# Altium schematic symbol library SchemaitcLib.SchLib: 140 symbols (part 2 of 2)
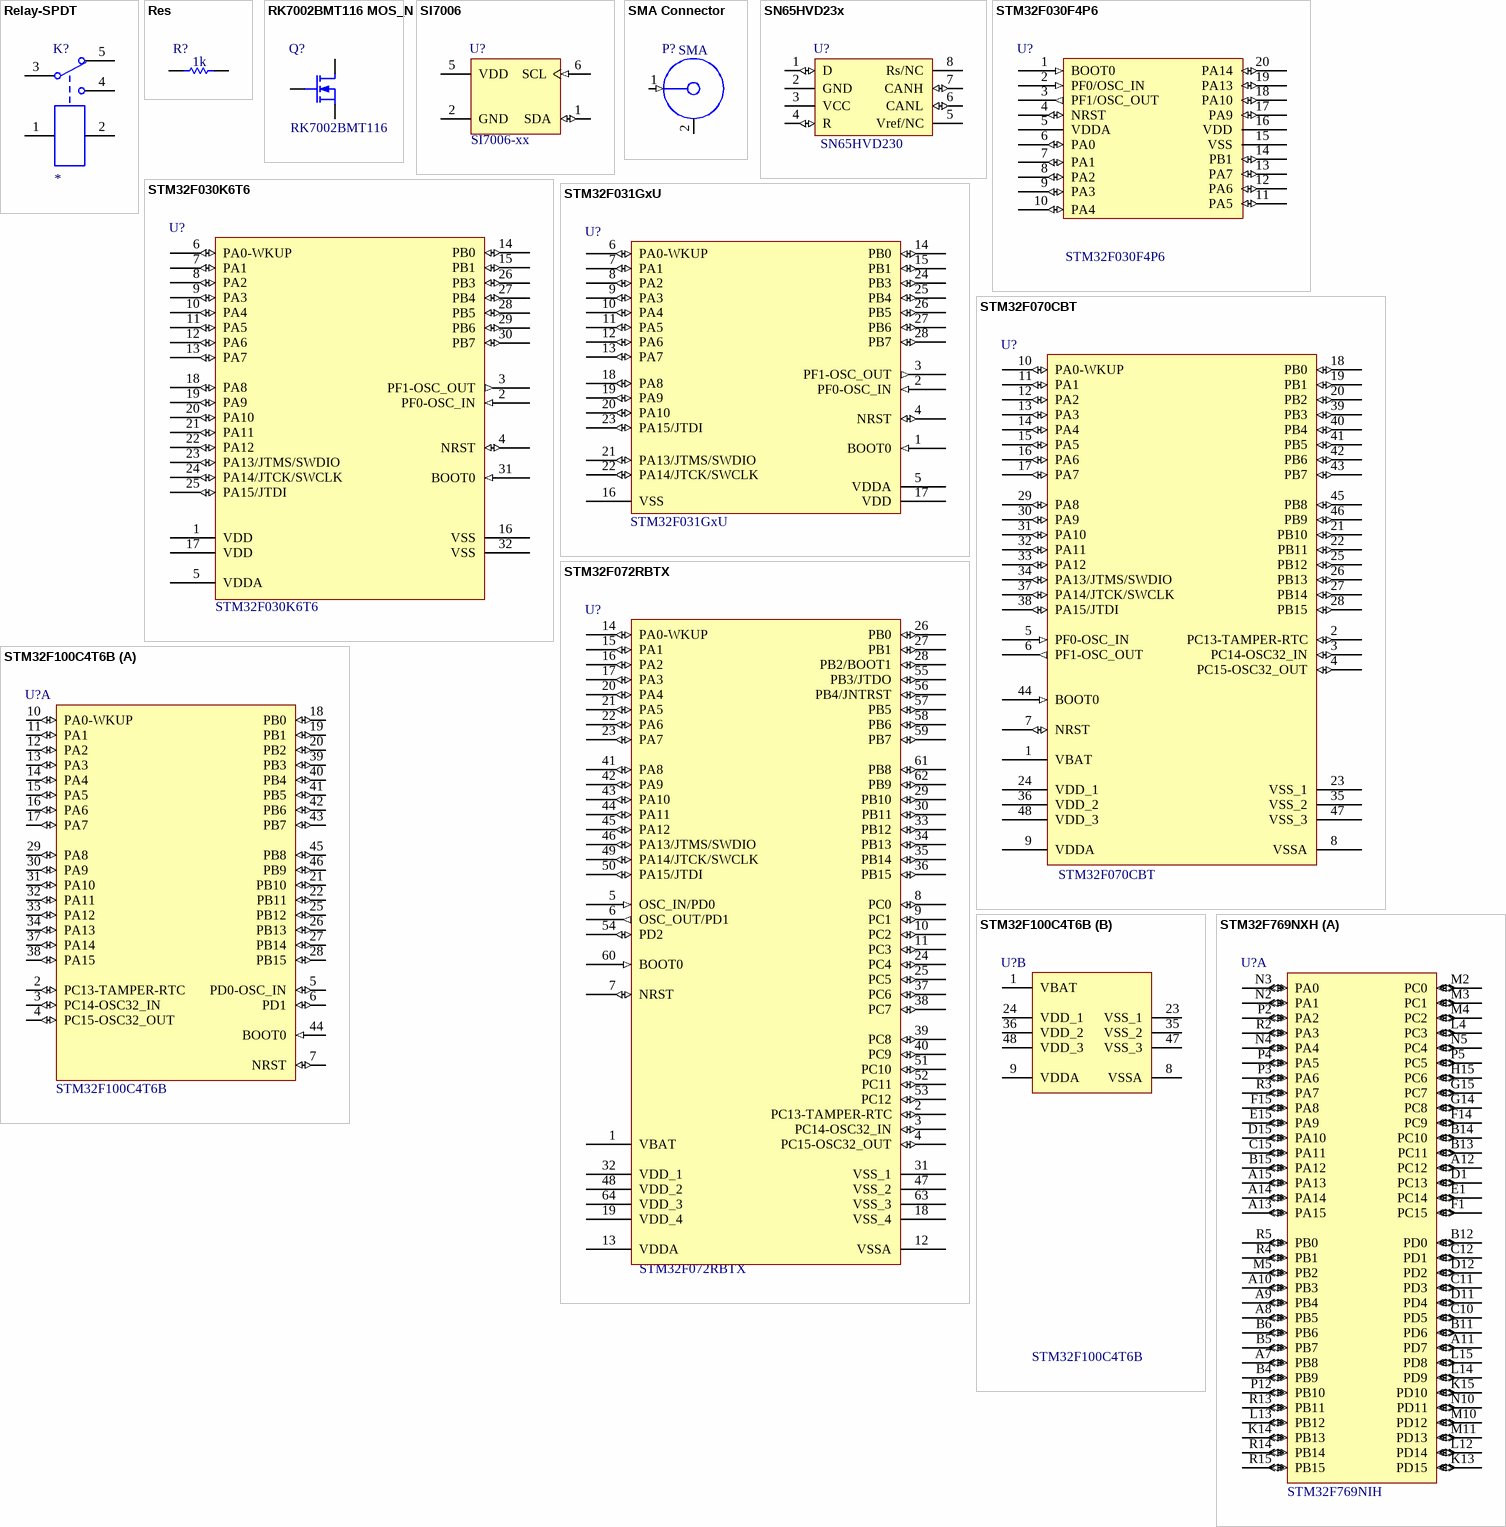
[diagram p5: symbols Relay-SPDT to STM32F769NXH]

## RK7002BMT116 MOS_N
designator Q?, comment RK7002BMT116
N-Channel 60V 250mA (Ta) 200mW (Ta) Surface Mount SST3; Paket: SOT23-3; Satıcı: Digikey; Birim Fiyat: 0,16; Depo Kodu: *; Satın Alma Linki: http://www.digikey.com/product-detail/en/rohm-semiconductor/RK7002BMT116/RK7002BMT116CT-ND/5042538; Datasheet: http://rohmfs.rohm.com/en/products/databook/datasheet/discrete/transistor/mosfet/rk7002bm.pdf; Value: RK7002BMT116
footprint SOT23-3 (SOT23, 3 pin)
pins: 1 G, 2 S, 3 D

## SI7006
designator U?, comment SI7006-xx
The Si7006 I2C Humidity and Temperature Sensor is a monolithic CMOS IC  integrating humidity and temperature sensor elements, an analog-to-digital  converter, signal processing, calibration data, and an I2C Interface.; Manufacture Code: Si7006-A20; Paket: DFN-6; Satıcı: Digikey; Depo Kodu: *; Satın Alma Linki: *; Datasheet: https://www.silabs.com/documents/public/data-sheets/Si7006-A20.pdf; Satıcı Kodu: *; Value: SI7006-xx
footprint dfn-6 (6 pin 3x3 mm 1 mm pitch)
pins: 1 SDA (io), 2 GND (power), 5 VDD (power), 6 SCL (in)

## SMA Connector
designator P?, comment SMA
RF Coaxial PCB Connector, MCX; Thru-Hole, Right-Angle Mount Socket, Blunt Post Terminal, 50 Ohm Impedance; Satıcı: Digikey; Birim Fiyat: * USD; Depo Kodu: *; Paket: *; Satın Alma Linki: *; Datasheet: *; Value: SMA
footprint SMA 90 DEG
footprint SMA STRAIGHT
pins: 1 (in) "Signal Pin", 2 (power)

## SN65HVD23x
designator U?, comment SN65HVD230
3.3V CAN Bus Transceivers; Depo Kodu: IC#TRANSCIEVER#CAN#SN65HVD230; Paket: SOIC8; Satıcı: Digikey; Birim Fiyat: 2.3 USD; Satın Alma Linki: http://www.digikey.com/product-detail/en/SN65HVD230DR/296-11654-1-ND/404366; Datasheet: http://www.ti.com/lit/ds/symlink/sn65hvd230.pdf; Value: SN65HVD230
footprint SOIC8 (SOIC, 8-Leads, Body 5,0x4,0mm (max), Pitch 1,27mm, IPC Low Density)
pins: 1 D (io), 2 GND (power), 3 VCC (power), 4 R (io), 5 Vref/NC (power), 6 CANL (io), 7 CANH (io), 8 Rs/NC (power)

## STM32F030F4P6
designator U?
32-bit MCU with up to 256-KB Flash,  timers, ADC, communication interfaces, 2.4-3.6 V operation; Depo Kodu: IC#MCU#STM32F030F4P6; Paket: TSOP20; Satıcı: Digikey; Satın Alma Linki: *; Birim Fiyat: *; Datasheet: http://www.farnell.com/datasheets/1883133.pdf; Value: STM32F030F4P6
footprint TSOP20 (TSOP, 20-Leads, Body 6,6x4,5mm (max), Pitch 0,65mm, IPC Medium Density)
pins: 1 BOOT0 (in), 2 PF0/OSC_IN (in), 3 PF1/OSC_OUT (out), 4 NRST (io), 5 VDDA (power), 6 PA0 (io), 7 PA1 (io), 8 PA2 (io), 9 PA3 (io), 10 PA4 (io), 11 PA5 (io), 12 PA6 (io), 13 PA7 (io), 14 PB1 (io), 15 VSS (power), 16 VDD (power), 17 PA9 (io), 18 PA10 (io), 19 PA13 (io), 20 PA14 (io)

## STM32F030K6T6
designator U?
ARM  ®  -based 32-bit MCU, up to 128 KB Flash, USB FS 2.0,   11 timers, ADC, communication interfaces, 2.4 - 3.6 V; Depo Kodu: IC#MCU#STM32F030K6T6; Paket: LQFP48; Satıcı: Digikey; Birim Fiyat: *; Datasheet: http://www.st.com/web/en/resource/technical/document/datasheet/DM00141386.pdf; Value: STM32F030K6T6
footprint LQFP32
pins: 1 VDD (power), 2 PF0-OSC_IN (in), 3 PF1-OSC_OUT (out), 4 NRST (io), 5 VDDA (power), 6 PA0-WKUP (io), 7 PA1 (io), 8 PA2 (io), 9 PA3 (io), 10 PA4 (io), 11 PA5 (io), 12 PA6 (io), 13 PA7 (io), 14 PB0 (io), 15 PB1 (io), 16 VSS (power), 17 VDD (power), 18 PA8 (io), 19 PA9 (io), 20 PA10 (io), 21 PA11 (io), 22 PA12 (io), 23 PA13/JTMS/SWDIO (io), 24 PA14/JTCK/SWCLK (io), 25 PA15/JTDI (io), 26 PB3 (io), 27 PB4 (io), 28 PB5 (io), 29 PB6 (io), 30 PB7 (io), 31 BOOT0 (in), 32 VSS (power)

## STM32F031GxU
designator U?
ARM  ®  -based 32-bit MCU, up to 128 KB Flash, USB FS 2.0,   11 timers, ADC, communication interfaces, 2.4 - 3.6 V; Depo Kodu: IC#MCU#STM32F070CBT; Paket: LQFP48; Satıcı: Digikey; Birim Fiyat: *; Datasheet: http://www.st.com/content/ccc/resource/technical/document/datasheet/4d/c2/7e/10/77/4f/4a/60/DM00104043.pdf/files/DM00104043.pdf/jcr:content/translations/en.DM00104043.pdf; Value: STM32F031GxU
footprint Quad28
pins: 1 BOOT0 (in), 2 PF0-OSC_IN (in), 3 PF1-OSC_OUT (out), 4 NRST (io), 5 VDDA (power), 6 PA0-WKUP (io), 7 PA1 (io), 8 PA2 (io), 9 PA3 (io), 10 PA4 (io), 11 PA5 (io), 12 PA6 (io), 13 PA7 (io), 14 PB0 (io), 15 PB1 (io), 16 VSS (power), 17 VDD (power), 18 PA8 (io), 19 PA9 (io), 20 PA10 (io), 21 PA13/JTMS/SWDIO (io), 22 PA14/JTCK/SWCLK (io), 23 PA15/JTDI (io), 24 PB3 (io), 25 PB4 (io), 26 PB5 (io), 27 PB6 (io), 28 PB7 (io)

## STM32F070CBT
designator U?
ARM  ®  -based 32-bit MCU, up to 128 KB Flash, USB FS 2.0,   11 timers, ADC, communication interfaces, 2.4 - 3.6 V; Depo Kodu: IC#MCU#STM32F070CBT; Paket: LQFP48; Satıcı: Digikey; Birim Fiyat: *; Datasheet: http://www.st.com/web/en/resource/technical/document/datasheet/DM00141386.pdf; Value: STM32F070CBT
footprint LQFP48_N (Thin QFP, 48-Leads, Body 7x7mm, Pitch 0.5mm, IPC Medium Density)
pins: 1 VBAT (power), 2 PC13-TAMPER-RTC (io), 3 PC14-OSC32_IN (io), 4 PC15-OSC32_OUT (io), 5 PF0-OSC_IN (in), 6 PF1-OSC_OUT (out), 7 NRST (io), 8 VSSA (power), 9 VDDA (power), 10 PA0-WKUP (io), 11 PA1 (io), 12 PA2 (io), 13 PA3 (io), 14 PA4 (io), 15 PA5 (io), 16 PA6 (io), 17 PA7 (io), 18 PB0 (io), 19 PB1 (io), 20 PB2 (io), 21 PB10 (io), 22 PB11 (io), 23 VSS_1 (power), 24 VDD_1 (power), 25 PB12 (io), 26 PB13 (io), 27 PB14 (io), 28 PB15 (io), 29 PA8 (io), 30 PA9 (io), 31 PA10 (io), 32 PA11 (io), 33 PA12 (io), 34 PA13/JTMS/SWDIO (io), 35 VSS_2 (power), 36 VDD_2 (power), 37 PA14/JTCK/SWCLK (io), 38 PA15/JTDI (io), 39 PB3 (io), 40 PB4 (io), 41 PB5 (io), 42 PB6 (io), 43 PB7 (io), 44 BOOT0 (in), 45 PB8 (io), 46 PB9 (io), 47 VSS_3 (power), 48 VDD_3 (power)

## STM32F072RBTX
designator U?
STM32 ARM-based 32-bit MCU with 32 Kbytes Flash, 64-pin LQFP, Industrial Temperature; Depo Kodu: IC#MCU#STM32F072RBTX; Satıcı: Digikey; Birim Fiyat: * USD; Paket: *; Satın Alma Linki: *; Datasheet: *; Value: STM32F072RBTX
footprint LQFP64 (LQFP, 64-Leads, Body 12,2x12,2mm (max), Pitch 0,50mm, IPC Low Density)
pins: 1 VBAT (power), 2 PC13-TAMPER-RTC (io), 3 PC14-OSC32_IN (io), 4 PC15-OSC32_OUT (io), 5 OSC_IN/PD0 (in), 6 OSC_OUT/PD1 (out), 7 NRST (io), 8 PC0 (io), 9 PC1 (io), 10 PC2 (io), 11 PC3 (io), 12 VSSA (power), 13 VDDA (power), 14 PA0-WKUP (io), 15 PA1 (io), 16 PA2 (io), 17 PA3 (io), 18 VSS_4 (power), 19 VDD_4 (power), 20 PA4 (io), 21 PA5 (io), 22 PA6 (io), 23 PA7 (io), 24 PC4 (io), 25 PC5 (io), 26 PB0 (io), 27 PB1 (io), 28 PB2/BOOT1 (io), 29 PB10 (io), 30 PB11 (io), 31 VSS_1 (power), 32 VDD_1 (power), 33 PB12 (io), 34 PB13 (io), 35 PB14 (io), 36 PB15 (io), 37 PC6 (io), 38 PC7 (io), 39 PC8 (io), 40 PC9 (io), 41 PA8 (io), 42 PA9 (io), 43 PA10 (io), 44 PA11 (io), 45 PA12 (io), 46 PA13/JTMS/SWDIO (io), 47 VSS_2 (power), 48 VDD_2 (power), 49 PA14/JTCK/SWCLK (io), 50 PA15/JTDI (io), 51 PC10 (io), 52 PC11 (io), 53 PC12 (io), 54 PD2 (io), 55 PB3/JTDO (io), 56 PB4/JNTRST (io), 57 PB5 (io), 58 PB6 (io), 59 PB7 (io), 60 BOOT0 (in), 61 PB8 (io), 62 PB9 (io), 63 VSS_3 (power), 64 VDD_3 (power)

## STM32F100C4T6B
designator U?
STM32 ARM-based 32-bit MCU Value Line with 16 kB Flash, 4 kB Internal RAM, Internal Code B, -40 to +85°C Temperature, 48-Pin LQFP, Tray; Depo Kodu: IC#MCU#STM32F100C4T6B; Paket: LQFP48; Satıcı: Digikey; Birim Fiyat: * USD; Satın Alma Linki: *; Datasheet: http://www.st.com/content/ccc/resource/technical/document/datasheet/dd/87/fd/2a/fb/3f/48/5c/CD00251732.pdf/files/CD00251732.pdf/jcr:content/translations/en.CD00251732.pdf; Value: STM32F100C4T6B
footprint LQFP48_N (Thin QFP, 48-Leads, Body 7x7mm, Pitch 0.5mm, IPC Medium Density)
part A pins: 2 PC13-TAMPER-RTC (io), 3 PC14-OSC32_IN (io), 4 PC15-OSC32_OUT (io), 5 PD0-OSC_IN (io), 6 PD1 (io), 7 NRST (io), 10 PA0-WKUP (io), 11 PA1 (io), 12 PA2 (io), 13 PA3 (io), 14 PA4 (io), 15 PA5 (io), 16 PA6 (io), 17 PA7 (io), 18 PB0 (io), 19 PB1 (io), 20 PB2 (io), 21 PB10 (io), 22 PB11 (io), 25 PB12 (io), 26 PB13 (io), 27 PB14 (io), 28 PB15 (io), 29 PA8 (io), 30 PA9 (io), 31 PA10 (io), 32 PA11 (io), 33 PA12 (io), 34 PA13 (io), 37 PA14 (io), 38 PA15 (io), 39 PB3 (io), 40 PB4 (io), 41 PB5 (io), 42 PB6 (io), 43 PB7 (io), 44 BOOT0 (in), 45 PB8 (io), 46 PB9 (io)
part B pins: 1 VBAT (power), 8 VSSA (power), 9 VDDA (power), 23 VSS_1 (power), 24 VDD_1 (power), 35 VSS_2 (power), 36 VDD_2 (power), 47 VSS_3 (power), 48 VDD_3 (power)

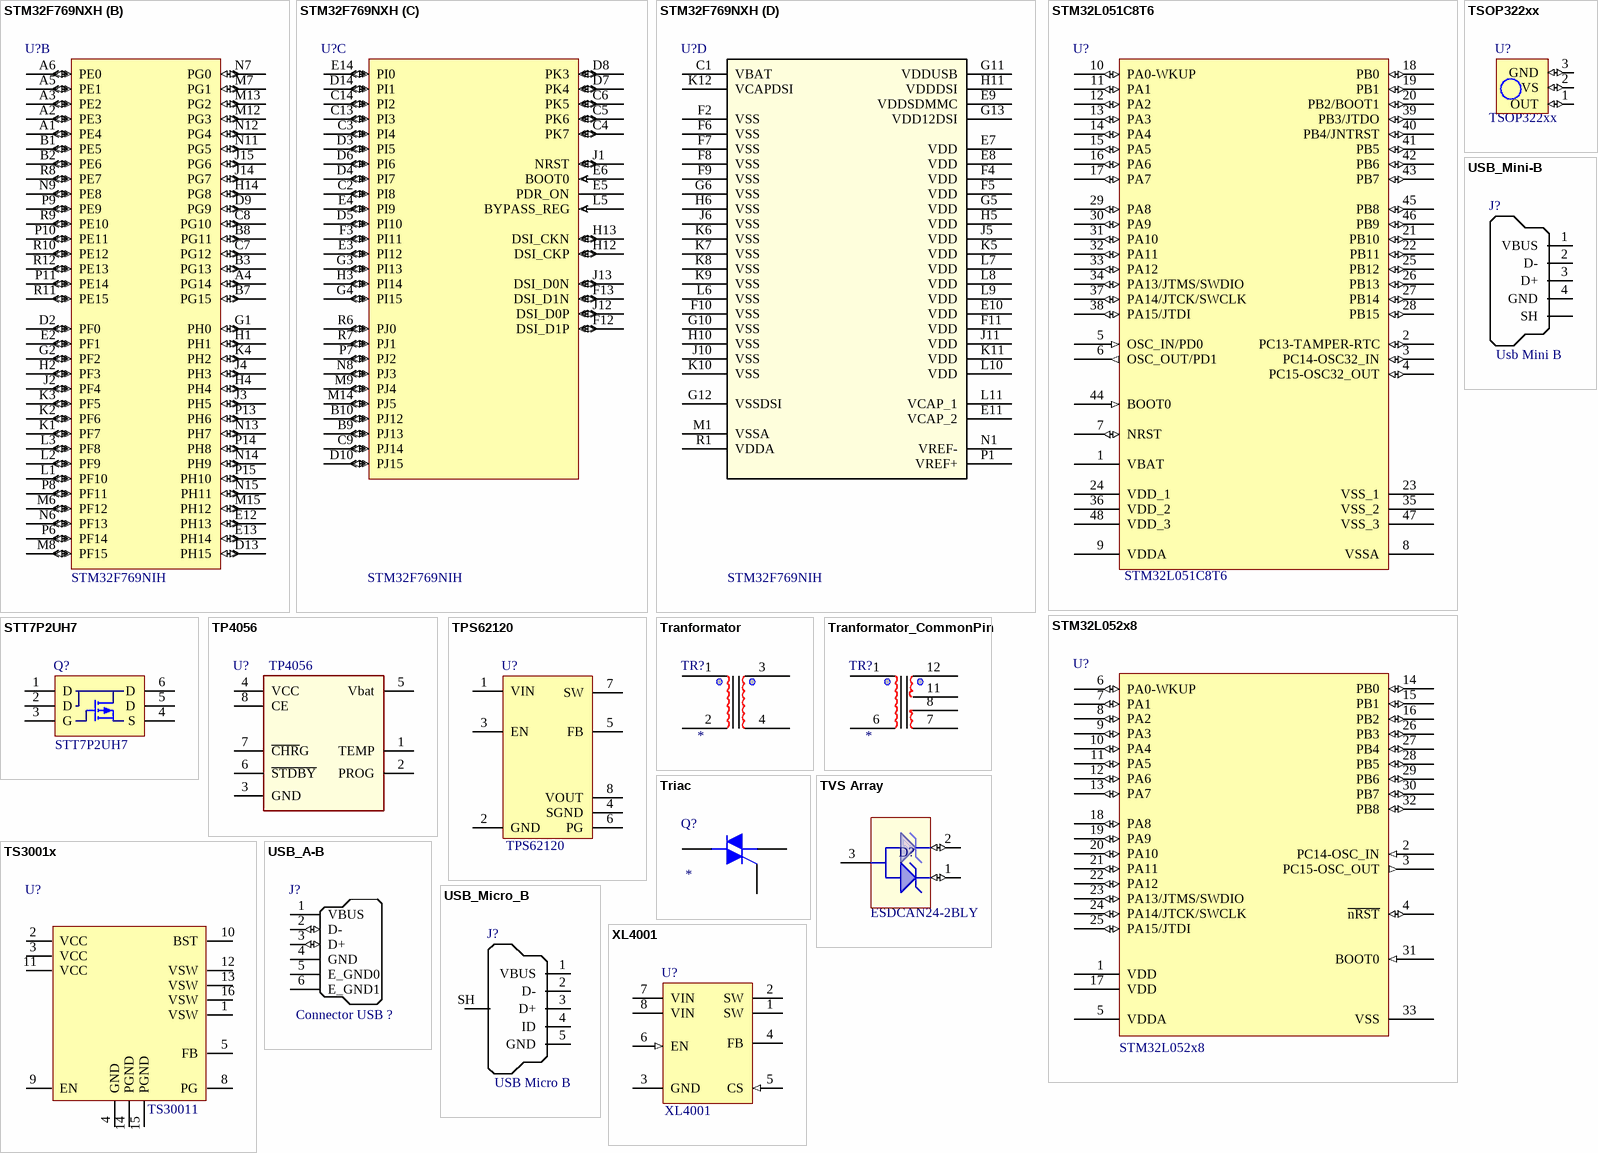
[diagram p4: symbols STM32F769NXH to XL4001]

## STM32F769NXH
designator U?, comment STM32F769NIH
ARM®-based Cortex®-M7 32b MCU+FPU, 462DMIPS, up to 2MB Flash/512+16+4KB  RAM, USB OTG HS/FS, ethernet, 18 TIMs, 3 ADCs, 28 com itf, cam, LCD, DSI; Paket: TFBGA-216; Satıcı: Digikey; Depo Kodu: *; Satın Alma Linki: *; Birim Fiyat: *; Datasheet: *; Manufacture Code: STM32F769NIH; Satıcı Kodu: *; Value: STM32F769NIH
footprint TFBGA-216_13X13
part A pins: A7 PB8 (io), A8 PB5 (io), A9 PB4 (io), A10 PB3 (io), A11 PD7 (io), A12 PC12 (io), A13 PA15 (io), A14 PA14 (io), A15 PA13 (io), B4 PB9 (io), B5 PB7 (io), B6 PB6 (io), B11 PD6 (io), B12 PD0 (io), B13 PC11 (io), B14 PC10 (io), B15 PA12 (io), C10 PD5 (io), C11 PD3 (io), C12 PD1 (io), C15 PA11 (io), D1 PC13 (io), D11 PD4 (io), D12 PD2 (io), D15 PA10 (io), E1 PC14 (io), E15 PA9 (io), F1 PC15 (io), F14 PC9 (io), F15 PA8 (io), G14 PC8 (io), G15 PC7 (io), H15 PC6 (io), K13 PD15 (io), K14 PB13 (io), K15 PD10 (io), L4 PC3 (io), L12 PD14 (io), L13 PB12 (io), L14 PD9 (io), L15 PD8 (io), M2 PC0 (io), M3 PC1 (io), M4 PC2 (io), M5 PB2 (io), M10 PD12 (io), M11 PD13 (io), N2 PA1 (io), N3 PA0 (io), N4 PA4 (io), N5 PC4 (io), N10 PD11 (io), P2 PA2 (io), P3 PA6 (io), P4 PA5 (io), P5 PC5 (io), P12 PB10 (io), R2 PA3 (io), R3 PA7 (io), R4 PB1 (io), R5 PB0 (io), R13 PB11 (io), R14 PB14 (io), R15 PB15 (io)
part B pins: A1 PE4 (io), A2 PE3 (io), A3 PE2 (io), A4 PG14 (io), A5 PE1 (io), A6 PE0 (io), B1 PE5 (io), B2 PE6 (io), B3 PG13 (io), B7 PG15 (io), B8 PG11 (io), C7 PG12 (io), C8 PG10 (io), D2 PF0 (io), D9 PG9 (io), D13 PH15 (io), E2 PF1 (io), E12 PH13 (io), E13 PH14 (io), G1 PH0 (io), G2 PF2 (io), H1 PH1 (io), H2 PF3 (io), H4 PH4 (io), H14 PG8 (io), J2 PF4 (io), J3 PH5 (io), J4 PH3 (io), J14 PG7 (io), J15 PG6 (io), K1 PF7 (io), K2 PF6 (io), K3 PF5 (io), K4 PH2 (io), L1 PF10 (io), L2 PF9 (io), L3 PF8 (io), M6 PF12 (io), M7 PG1 (io), M8 PF15 (io), M12 PG3 (io), M13 PG2 (io), M15 PH12 (io), N6 PF13 (io), N7 PG0 (io), N9 PE8 (io), N11 PG5 (io), N12 PG4 (io), N13 PH7 (io), N14 PH9 (io), N15 PH11 (io), P6 PF14 (io), P8 PF11 (io), P9 PE9 (io), P10 PE11 (io), P11 PE14 (io), P13 PH6 (io), P14 PH8 (io), P15 PH10 (io), R8 PE7 (io), R9 PE10 (io), R10 PE12 (io), R11 PE15 (io), R12 PE13 (io)
part C pins: B9 PJ13 (io), B10 PJ12 (io), C2 PI8 (io), C3 PI4 (io), C4 PK7 (io), C5 PK6 (io), C6 PK5 (io), C9 PJ14 (io), C13 PI3 (io), C14 PI2 (io), D3 PI5 (io), D4 PI7 (io), D5 PI10 (io), D6 PI6 (io), D7 PK4 (io), D8 PK3 (io), D10 PJ15 (io), D14 PI1 (io), E3 PI12 (io), E4 PI9 (io), E5 PDR_ON, E6 BOOT0 (in), E14 PI0 (io), F3 PI11 (io), F12 DSI_D1P (io), F13 DSI_D1N (io), G3 PI13 (io), G4 PI15 (io), H3 PI14 (io), H12 DSI_CKP (io), H13 DSI_CKN (io), J1 NRST (io), J12 DSI_D0P (io), J13 DSI_D0N (io), L5 BYPASS_REG (in), M9 PJ4 (io), M14 PJ5 (io), N8 PJ3 (io), P7 PJ2 (io), R6 PJ0 (io), R7 PJ1 (io)
part D pins: C1 VBAT (power), E7 VDD (power), E8 VDD (power), E9 VDDSDMMC (power), E10 VDD (power), E11 VCAP_2 (power), F2 VSS (power), F4 VDD (power), F5 VDD (power), F6 VSS (power), F7 VSS (power), F8 VSS (power), F9 VSS (power), F10 VSS (power), F11 VDD (power), G5 VDD (power), G6 VSS (power), G10 VSS (power), G11 VDDUSB (power), G12 VSSDSI (power), G13 VDD12DSI (power), H5 VDD (power), H6 VSS (power), H10 VSS (power), H11 VDDDSI (power), J5 VDD (power), J6 VSS (power), J10 VSS (power), J11 VDD (power), K5 VDD (power), K6 VSS (power), K7 VSS (power), K8 VSS (power), K9 VSS (power), K10 VSS (power), K11 VDD (power), K12 VCAPDSI (power), L6 VSS (power), L7 VDD (power), L8 VDD (power), L9 VDD (power), L10 VDD (power), L11 VCAP_1 (power), M1 VSSA (power), N1 VREF- (power), P1 VREF+ (power), R1 VDDA (power)

## STM32L051C8T6
designator U?
STM32 ARM-based 32-bit MCU with 64 Kbytes Flash, 48-pin LQFP, Industrial Temperature; Depo Kodu: IC#MCU#STM32L051C8T6; Paket: QFP48; Satıcı: Digikey; Birim Fiyat: * USD; Satın Alma Linki: *; Datasheet: http://www.st.com/content/ccc/resource/technical/document/datasheet/9a/75/bd/16/0f/fd/49/19/DM00108219.pdf/files/DM00108219.pdf/jcr:content/translations/en.DM00108219.pdf; Value: STM32L051C8T6
footprint LQFP48 (LQFP, 48-Leads, Body 9,1x9,1mm (max), Pitch 0,50mm, IPC Medium Density)
footprint LQFP48_N (Thin QFP, 48-Leads, Body 7x7mm, Pitch 0.5mm, IPC Medium Density)
pins: 1 VBAT (power), 2 PC13-TAMPER-RTC (io), 3 PC14-OSC32_IN (io), 4 PC15-OSC32_OUT (io), 5 OSC_IN/PD0 (in), 6 OSC_OUT/PD1 (out), 7 NRST (io), 8 VSSA (power), 9 VDDA (power), 10 PA0-WKUP (io), 11 PA1 (io), 12 PA2 (io), 13 PA3 (io), 14 PA4 (io), 15 PA5 (io), 16 PA6 (io), 17 PA7 (io), 18 PB0 (io), 19 PB1 (io), 20 PB2/BOOT1 (io), 21 PB10 (io), 22 PB11 (io), 23 VSS_1 (power), 24 VDD_1 (power), 25 PB12 (io), 26 PB13 (io), 27 PB14 (io), 28 PB15 (io), 29 PA8 (io), 30 PA9 (io), 31 PA10 (io), 32 PA11 (io), 33 PA12 (io), 34 PA13/JTMS/SWDIO (io), 35 VSS_2 (power), 36 VDD_2 (power), 37 PA14/JTCK/SWCLK (io), 38 PA15/JTDI (io), 39 PB3/JTDO (io), 40 PB4/JNTRST (io), 41 PB5 (io), 42 PB6 (io), 43 PB7 (io), 44 BOOT0 (in), 45 PB8 (io), 46 PB9 (io), 47 VSS_3 (power), 48 VDD_3 (power)

## STM32L052x8
designator U?
Paket: QFPN32; Satıcı: Digikey; Depo Kodu: *; Satın Alma Linki: *; Datasheet: http://www.st.com/content/ccc/resource/technical/document/datasheet/dc/d6/6d/24/86/2a/40/d3/DM00108217.pdf/files/DM00108217.pdf; Manufacture Code: STM32L052x8; Satıcı Kodu: *; Value: STM32L052x8
footprint QFPN32 (32-pin, 5x5 mm, 0.5 mm pitch ultra thin fine pitch quad flat  package)
pins: 1 VDD (power), 2 PC14-OSC_IN (in), 3 PC15-OSC_OUT (out), 4 ~{nRST} (io), 5 VDDA (power), 6 PA0-WKUP (io), 7 PA1 (io), 8 PA2 (io), 9 PA3 (io), 10 PA4 (io), 11 PA5 (io), 12 PA6 (io), 13 PA7 (io), 14 PB0 (io), 15 PB1 (io), 16 PB2 (io), 17 VDD (power), 18 PA8 (io), 19 PA9 (io), 20 PA10 (io), 21 PA11 (io), 22 PA12 (io), 23 PA13/JTMS/SWDIO (io), 24 PA14/JTCK/SWCLK (io), 25 PA15/JTDI (io), 26 PB3 (io), 27 PB4 (io), 28 PB5 (io), 29 PB6 (io), 30 PB7 (io), 31 BOOT0 (in), 32 PB8 (io), 33 VSS (power)

## STT7P2UH7
designator Q?
P-channel 20 V, 0.0195 Ω typ., 7 A STripFET™ H7  Power MOSFET in a SOT23-6L package; Satıcı: Digikey; Birim Fiyat: 0,61; Depo Kodu: *; Paket: SOT23-6; Satın Alma Linki: http://www.digikey.com/product-detail/en/stmicroelectronics/STT7P2UH7/497-15157-1-ND/5052959; Datasheet: www.st.com/content/ccc/resource/technical/document/datasheet/30/aa/a9/69/49/49/4b/ee/DM00093326.pdf/files/DM00093326.pdf/jcr:content/translations/en.DM00093326.pdf; Value: STT7P2UH7
footprint SOT23-6
pins: 1 D, 2 D, 3 G, 4 S, 5 D, 6 D

## TP4056
designator U?
1A Standalone Linear Li-lon Battery Charger with Thermal  Regulation in SOP-8; Depo Kodu: IC#CHARGER#MCP73833-UN; Paket: MSOP-10; Satıcı: Digikey; Birim Fiyat: * USD; Satın Alma Linki: https://www.digikey.com/product-detail/en/microchip-technology/MCP73833T-FCI-UN/MCP73833T-FCI-UNCT-ND/5818703; Datasheet: http://ww1.microchip.com/downloads/en/DeviceDoc/22005b.pdf; Satıcı Kodu: *; Value: TP4056
footprint SOP8-EP
pins: 1 TEMP (hiz) "100mA/500mA", 2 PROG (hiz) "100mA/500mA", 3 GND (power), 4 VCC (power), 5 Vbat (power) "Battery Power", 6 ~{STDBY} (oc) "Charge Status", 7 ~{CHR}G (oc) "Charge Status", 8 CE (hiz) "100mA/500mA"

## TPS62120
designator U?
15-V, 75-mA Highly Efficient Buck Converter; Depo Kodu: REGULATOR#SWITCH#TPS62120; Paket: SOT23-8; Satıcı: Digikey; Satın Alma Linki: *; Birim Fiyat: *; Datasheet: http://www.ti.com/lit/ds/slvsad5a/slvsad5a.pdf; Value: TPS62120
footprint SOT23-8 (SOT 8-Leads, Body 2,90x1,60mm, Pitch 1,27mm, IPC Medium Density)
pins: 1 VIN, 2 GND (power), 3 EN, 4 SGND (power), 5 FB (power), 6 PG, 7 SW (power), 8 VOUT (power)

## Tranformator
designator TR?
220V/7.5V Trafo; Satıcı: Digikey; Birim Fiyat: * USD; Depo Kodu: *; Paket: *; Satın Alma Linki: *; Datasheet: *; Value: *
footprint EI30/15,5
pins: 1, 2, 3, 4

## Tranformator_CommonPin
designator TR?
220V/7.5V Trafo; Satıcı: Digikey; Birim Fiyat: * USD; Depo Kodu: *; Paket: *; Satın Alma Linki: *; Datasheet: *; Value: *
footprint TRANSFORMATOR_Common_1 (TRANSFORMATOR - Megoras)
pins: 1, 6, 7, 8, 11, 12

## Triac
designator Q?
Silicon Bidirectional Triode Thyristor; Satıcı: Digikey; Depo Kodu: *; Paket: *; Satın Alma Linki: *; Birim Fiyat: *; Datasheet: *; Value: *
footprint TO220
footprint TO220 - yatik
footprint TO220 - yatik - delikli
pins: 1 M1, 2 M2, 3 G

## TS3001x
designator U?, comment TS30011
High Efficiency 1A/2A/3A Current-Mode   Synchronous Buck DC/DC Converter, 1MHz; Satıcı: Digikey; Birim Fiyat: * USD; Depo Kodu: *; Paket: *; Satın Alma Linki: *; Datasheet: *; Value: TS30011
footprint qfn16p3x3 (3x3 QFN)
pins: 1 VSW (power), 2 VCC (power), 3 VCC (power), 4 GND (power), 5 FB (power), 6 NC (power) hidden, 7 NC (power) hidden, 8 PG (power), 9 EN (power), 10 BST (power), 11 VCC (power), 12 VSW (power), 13 VSW (power), 14 PGND (power), 15 PGND (power), 16 VSW (power)

## TSOP322xx
designator U?
IR Receiver Modules for Remote Control Systems; Satıcı: Digikey; Depo Kodu: *; Paket: *; Satın Alma Linki: *; Birim Fiyat: *; Datasheet: https://www.google.com/url?sa=t&rct=j&q=&esrc=s&source=web&cd=1&cad=rja&uact=8&ved=0ahUKEwjUu__4jqPOAhUMDxoKHcCsDVcQFgg2MAA&url=http%3A%2F%2Fwww.vishay.com%2Fdocs%2F82489%2Ftsop322.pdf&usg=AFQjCNFW6BrtyZzsUpz5TybA3-v-Tl7pUQ&sig2=WtObjhQ3WVHPTbRrBMFLOQ; Value: TSOP322xx
footprint tsop322xx (TSOP322.., TSOP324.., TSOP344.., TSOP348..   IR Receiver Modules for Remote Control Systems)
pins: 1 OUT (io), 2 VS (io), 3 GND (io)

## TVS Array
designator D?, comment ESDCAN24-2BLY
Dual-line Transil™,  transient voltage suppressor (TVS); Depo Kodu: DIODE#TVS#ESDCAN24_2BLY; Paket: SOT23-3; Satıcı: Digikey; Birim Fiyat: 0.52USD; Satın Alma Linki: http://www.digikey.com/product-detail/en/ESDCAN24-2BLY/497-13262-1-ND/3661760; Datasheet: http://www.st.com/web/en/resource/technical/document/datasheet/DM00037599.pdf; Value: ESDCAN24-2BLY
footprint sc70-3 (SC70-3, 3-Leads, Body 2,3x2,4mm (max), Pitch 0,66mm, IPC Low Density)
footprint sot23-3 (SOT23, 3 pin)
footprint sot23-3_sc70-3 (SOT23, 3-Leads, Body 3,0x2,5mm (max), Pitch 0,95mm, IPC Low Density)
pins: 1 (io), 2 (io), 3 (power)

## USB_A-B
designator J?, comment Connector USB ?
USB A/B type connector; Depo Kodu: CONNECTOR#USB?; Satıcı: Digikey; Birim Fiyat: * USD; Paket: *; Satın Alma Linki: *; Datasheet: *; Value: Connector USB ?
footprint usb_a (USB Type A Connector)
footprint usb_b (USB B type shielded connector)
footprint usb_a - vertical (USB Type A Connector)
pins: 1 VBUS (power), 2 D- (io), 3 D+ (io), 4 GND (power), 5 E_GND0 (power), 6 E_GND1 (power)

## USB_Micro_B
designator J?, comment USB Micro B
Connector SMD-THD USB Micro Type B middle mount; Depo Kodu: CONNECTOR#USB#MICRO; Satıcı: Digikey; Birim Fiyat: * USD; Paket: *; Satın Alma Linki: *; Datasheet: *; Value: USB Micro B
footprint USB_Mini-B_Molex_SMT
footprint USB_Micro-B_FCI_SMD
footprint USB_Micro-B_FCI_SMD-Egik
pins: 1 VBUS (power), 2 D-, 3 D+, 4 ID, 5 GND (power), SH Shell (power)

## USB_Mini-B
designator J?, comment Usb Mini B
Connector SMD USB Type Mini-B; Depo Kodu: CONNECTOR#USB#MINI#; Satıcı: Digikey; Birim Fiyat: * USD; Paket: *; Satın Alma Linki: *; Datasheet: *; Value: Usb Mini B
footprint USB_TypeB_Tyco
pins: 1 VBUS (power), 2 D-, 3 D+, 4 GND (power), MH SH (power)

## XL4001
designator U?
2A 150kHz 40V Buck DC/DC Converter With Constant Current Loop; Depo Kodu: IC#CHARGER$XL4001; Paket: SOIC8-EP; Satıcı: Digikey; Satın Alma Linki: *; Birim Fiyat: *; Datasheet: *; Value: XL4001
footprint SOP8-EP
pins: 1 SW, 2 SW, 3 GND (power), 4 FB, 5 CS (in), 6 EN (in), 7 VIN (power), 8 VIN (power)